# EAGLE library part MAX2659ELT/V+ (library Maxim, Dallas)
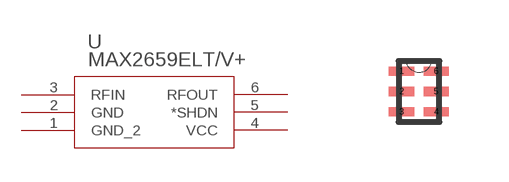
[diagram p2: symbol with the pads of 21-0147E; footprint 21-0147E]

Designator prefix U

## MAX2659ELT/V+ (MANUFACTURER_NAME: Maxim; MANUFACTURER_PART_NUMBER: MAX2659ELT/V+; VENDOR: Maxim)  [21-0147E]
1  GND_2  pwr
2  GND  pwr
3  RFIN  in
4  VCC  pwr
5  *SHDN  pas
6  RFOUT  out

## Footprint 21-0147E (pad centres in mm)
smd 0.635 x 0.229: 1 -0.432,0.508; 2 -0.432,0; 3 -0.432,-0.508; 4 0.432,-0.508; 5 0.432,0; 6 0.432,0.508